# Altium schematic symbol library CSD87330.SchLib: 1 symbol
Pins are listed as number, name and electrical type; pins without a type are passive.

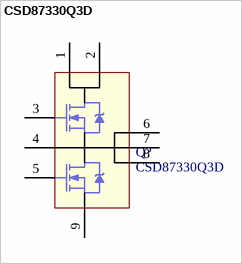
[diagram p0: symbol CSD87330Q3D]

## CSD87330Q3D
designator Q?
Synchronous Buck NexFET™ Power Block
footprint SON-8-3.3X3.3 (SON, 8-Leads, Body 3,30x3,30mm, Pitch 0,65mm, Thermal Pad 2,70x1,79mm, IPC Medium Density)
pins: 1 VIN, 2, 3 TG, 4 TGR, 5 BG, 6 VSW, 7 VSW, 8 VSW, 9 GND